# Altium schematic symbol library hallglib.SchLib: 125 symbols
Pins are listed as number, name and electrical type; pins without a type are passive.

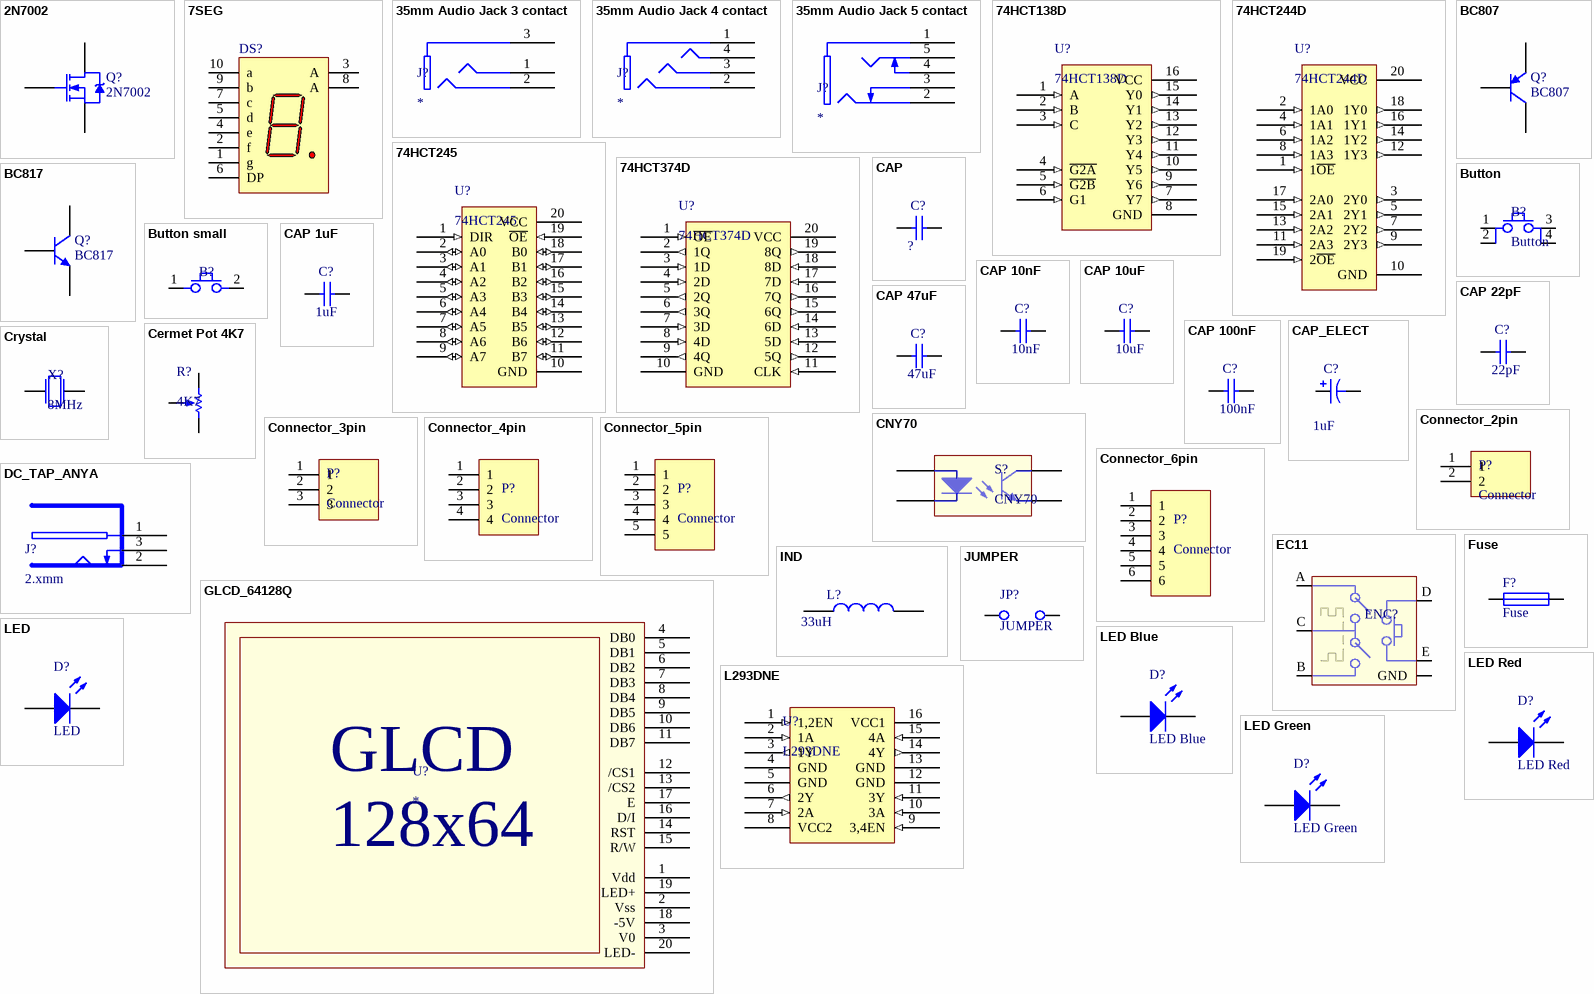
[diagram p0: symbols 2N7002 to LED Red]

## 2N7002
designator Q?
N-channel MOSFET; Name: MOSFET Transistor, N Channel, 300mA, 60V, 2.8 ohm, 10V, 2V; Voltage: 60V; Current: 300mA; Supplier: Lomex; Reference: 86-05-52
footprint FP_SOT23-3 (SOT23-3 tok); pin to pad 2>3 3>2
pins: 1 G, 2 D, 3 S

## 7SEG
designator DS?  (value not drawn)
Common Anode 7 Segment Display; Name: FYS-3911BUHR-21 (FYL) 7 SEG SRED COM.AN.; Reference: 35-03-94; Supplier: Lomex
footprint FP_7SEG
pins: 1 g "Cathode", 2 f "Cathode", 3 A "Anode", 4 e "Cathode", 5 d "Cathode", 6 DP "Cathode", 7 c "Cathode", 8 A "Anode", 9 b "Cathode", 10 a "Cathode"

## 35mm Audio Jack 3 contact
designator J?
3.5mm Audio Jack MX-387GL; Name: MX-387GL -  Phone Audio Connector, 3 Contacts, Jack, 3.5 mm, PCB Mount, Metal Body; Reference: 1267376; Supplier: Farnell
footprint FP_35MM_JACK_SMALL_3PIN (MX-387GL -  Phone Audio Connector, 3 Contacts, Jack, 3.5 mm, PCB Mount, Metal Body)
pins: 1 SLEEVE1, 2 TIP, 3 GND

## 35mm Audio Jack 4 contact
designator J?
3.5mm Audio Jack MJ-2135; Name: MJ-2135 -  Phone Audio Connector, 4 Contacts, Socket, 3.5 mm, PCB Mount; Reference: 1267377; Supplier: Farnell
footprint FP_35MM_JACK_SMALL (STX-3120-5B -  Phone Audio Connector, 3.5mm Stereo, 5 Contacts, Jack)
pins: 1 GND, 2 SLEEVE1, 3 BREAK1, 4 BREAK2

## 35mm Audio Jack 5 contact
designator J?
3.5mm Audio Jack STX-3120; Name: STX-3120-5B -  Phone Audio Connector, 3.5mm Stereo, 5 Contacts, Jack, PCB Mount, Tin Plated Contacts; Reference: 2839858; Supplier: Farnell
footprint FP_35MM_JACK (STX-3120-5B -  Phone Audio Connector, 3.5mm Stereo, 5 Contacts, Jack)
pins: 1 GND, 2 SLEEVE1, 3 BREAK1, 4 BREAK2, 5 SLEEVE2

## 74HCT138D
designator U?
3-Line to 8-Line demultiplexer; Name: 74HCT138D  Decoder / Demultiplexer, HCT Family, 1 Gate, 3 Input, 8 Output; Reference: 87-06-49; Supplier: Lomex
footprint SOP127P600X175-16M (SOP, 16-Leads, Body 9,90x3,90mm, Pitch 1,27mm, IPC Low Density)
pins: 1 A (in), 2 B (in), 3 C (in), 4 ~{G2A} (in), 5 ~{G2B} (in), 6 G1 (in), 7 Y7 (out), 8 GND (power), 9 Y6 (out), 10 Y5 (out), 11 Y4 (out), 12 Y3 (out), 13 Y2 (out), 14 Y1 (out), 15 Y0 (out), 16 VCC (power)

## 74HCT244D
designator U?
8xBuffer/Line Driver; Name: 74HCT244D-Q100,118  Buffer / Line Driver, 74HCT244; Reference: 87-05-95; Supplier: Lomex
footprint FP_SOP127P1030X265-20M (SOP, 20-Leads, Body 12.80x7.50mm, Pitch 1.27mm, IPC Low Density)
pins: 1 1~{OE} (in), 2 1A0 (in), 3 2Y0 (out), 4 1A1 (in), 5 2Y1 (out), 6 1A2 (in), 7 2Y2 (out), 8 1A3 (in), 9 2Y3 (out), 10 GND (power), 11 2A3 (in), 12 1Y3 (out), 13 2A2 (in), 14 1Y2 (out), 15 2A1 (in), 16 1Y1 (out), 17 2A0 (in), 18 1Y0 (out), 19 2~{OE} (in), 20 VCC (power)

## 74HCT245
designator U?
8x Bidirectional bus transciever; Name: 74HCT245D  Transceiver, 74HCT245; Supplier: Lomex; Reference: 87-06-35
footprint FP_SOP127P1030X265-20M (SOP, 20-Leads, Body 12.80x7.50mm, Pitch 1.27mm, IPC Low Density)
pins: 1 DIR (in), 2 A0 (io), 3 A1 (io), 4 A2 (io), 5 A3 (io), 6 A4 (io), 7 A5 (io), 8 A6 (io), 9 A7 (io), 10 GND (power), 11 B7 (io), 12 B6 (io), 13 B5 (io), 14 B4 (io), 15 B3 (io), 16 B2 (io), 17 B1 (io), 18 B0 (io), 19 ~{OE} (in), 20 VCC (power)

## 74HCT374D
designator U?
8xD-type Flip-flop; Name: 74HCT374D  Flip-Flop, Tri State Non Inverted, Positive Edge; Reference: 87-00-97; Supplier: Lomex
pins: 1 ~{OE} (in), 2 1Q (out), 3 1D (in), 4 2D (in), 5 2Q (out), 6 3Q (out), 7 3D (in), 8 4D (in), 9 4Q (out), 10 GND (power), 11 CLK (in), 12 5Q (out), 13 5D (in), 14 6D (in), 15 6Q (out), 16 7Q (out), 17 7D (in), 18 8D (in), 19 8Q (out), 20 VCC (power)

## BC807
designator Q?
PNP Transistor; Name: BC807-25  Bipolar (BJT) Single Transistor, PNP, 45 V, 100 MHz; Reference: 86-03-91; Supplier: Lomex
footprint FP_SOT23-3 (SOT23-3 tok); pin to pad 1>2 2>1
pins: 1 E, 2 B, 3 C

## BC817
designator Q?
NPN Transistor; Name: BC817-25,215  Bipolar (BJT) Single Transistor, General Purpose, NPN, 45 V, 100 MHz; Supplier: Lomex; Reference: 86-01-94
footprint FP_SOT23-3 (SOT23-3 tok); pin to pad 1>2 2>1
pins: 1 E, 2 B, 3 C

## Button
designator B?
Push button; Name: TACT 6x 6 4P SPST 1 FSM2JSMA (TYC) 50mA 12VDC SMD H=4.3mm 160g BLACK B. 2-1437565-7; Reference: 45-05-42; Supplier: Lomex
footprint FP_BTN_SMD (SMD Push Button 6x6mm)
pins: 1, 2, 3, 4

## Button small
designator B?  (value not drawn)
Push button; Name: TACT 3x 6 2P SPST 1 TS-363 (FEM) SMD 3.5x6mm H=4.3mm; Reference: 45-08-58; Supplier: Lomex
footprint FP_BTN_SMD_3x6 (TACT 3x 6 2P)
pins: 1, 2

## CAP
designator C?, comment ?
Capacitor; Value: ?
simulation model CAP (Capacitor)
signal-integrity model Cap
footprint FP_0402_CAP_050 (0.5mm magas 0402 kapacitás)
footprint FP_0603_CAP_080 (0.8mm magas 0603 kapacitás)
footprint FP_0805_CAP_085 (0805 kapacitás YAGEO 0.85mm magas)
footprint FP_1206_CAP_125 (1206 kapacitás 1.25 mm)
pins: 1, 2

## CAP 1uF
designator C?, comment 1uF
Capacitor; Tolerance: 10%; Voltage: 16V; Name: 1uF 0805 10% 16V X7R CL21B105KOFNNNG (SAM); Supplier: Lomex; Reference: 82-11-62; Value: 1uF
footprint FP_0805_CAP_085 (0805 kapacitás YAGEO 0.85mm magas)
pins: 1, 2

## CAP 10nF
designator C?, comment 10nF
Capacitor; Tolerance: 10%; Voltage: 100V; Name: 10nF 0805 10% 100V X7R 08051C103KAT2A (AVX); Supplier: Lomex; Reference: 82-11-02; Value: 10nF
footprint FP_0805_CAP_085 (0805 kapacitás YAGEO 0.85mm magas)
pins: 1, 2

## CAP 10uF
designator C?, comment 10uF
Capacitor; Tolerance: 10%; Voltage: 10V; Name: 10uF 0805 10% 10V X5R CL21A106KPFNNNG (SAM); Supplier: Lomex; Reference: 82-08-17; Value: 10uF
footprint FP_0805_CAP_085 (0805 kapacitás YAGEO 0.85mm magas)
pins: 1, 2

## CAP 22pF
designator C?, comment 22pF
Capacitor; Tolerance: 5%; Voltage: 50V; Name: 22pF 0805 5% 50V NP0 CL21C220JBANNNC (SAM); Supplier: Lomex; Reference: 82-09-18; Value: 22pF
footprint FP_0805_CAP_085 (0805 kapacitás YAGEO 0.85mm magas)
pins: 1, 2

## CAP 47uF
designator C?, comment 47uF
Capacitor; Tolerance: 20%; Voltage: 6.3V; Name: 47uF 0805 20% 6.3V X5R CL21A476MQYNNNG (SAM); Supplier: Lomex; Reference: 82-08-66; Value: 47uF
footprint FP_0805_CAP_085 (0805 kapacitás YAGEO 0.85mm magas)
pins: 1, 2

## CAP 100nF
designator C?, comment 100nF
Capacitor; Tolerance: 10%; Voltage: 50V; Name: 100nF 0805 10% 50V X7R 0805B104K500CT (WAL); Supplier: Lomex; Reference: 82-10-76; Value: 100nF
footprint FP_0805_CAP_085 (0805 kapacitás YAGEO 0.85mm magas)
pins: 1, 2

## CAP_ELECT
designator C?, comment 1uF
Polarized Capacitor; Value: 1uF
footprint FP_3528 (3528 TANTÁL SMD "B"-TOK)
footprint FP_6032
footprint FP_7343
pins: N, P
1 alternate drawing of the same symbol

## Cermet Pot 4K7
designator R?, comment 4K7
4K70 3305-472R (KIC) 3x3.8mm CERMET; Reference: 90-00-68; Supplier: Lomex; Name: 4K70 3305-472R (KIC) 3x3.8mm CERMET; Value: 4K7
footprint FP_CERMET_SMD (SMD Cermet Pot 3x3.8mm)
pins: 1 CCW, 2 WIPER, 3 CW

## CNY70
designator S?
Reflective Optical Sensor; Name: CNY70 (VIS) OPTOCOUPLER REFL. 1.5%; Supplier: Lomex; Reference: 38-00-43
footprint CNY70; pin to pad 1>A 2>K 3>C 4>E
pins: 1 A, 2 K, 3 C, 4 E

## Connector_2pin
designator P?, comment Connector
2pin connector
footprint FP_CONN2_TAP_254MM (álló két pólusú tápcsatlakozó 2.54mm)
footprint FP_CONN2_TAP_254MM_90 (fekvő két pólusú tápcsatlakozó 2.54mm)
footprint FP_CONN2_SORK_3.81MM (SORKAPOCS 2 P RM3.81)
footprint FP_CONN2_2MM_90 (fekvő 2 pólusú csatlakozó 2mm)
footprint FP_CONN2_2MM_180 (álló 2 pólusú csatlakozó 2mm)
footprint FP_CONN2_TUSKE_254MM (2×1 tüskesor)
pins: 1, 2

## Connector_3pin
designator P?, comment Connector
3pin connector
footprint FP_CONN3_TAP_254MM_90 (fekvő három pólusú tápcsatlakozó 2.54mm)
footprint FP_CONN3_TAP_254MM (álló három pólusú tápcsatlakozó 2.54mm)
footprint FP_CONN3_2MM_90 (fekvő 3 pólusú csatlakozó 2mm)
footprint FP_CONN3_TUSKE_254MM (3×1 tüskesor)
pins: 1, 2, 3

## Connector_4pin
designator P?, comment Connector
4pin Connector
footprint FP_CONN4_TAP_254MM_90 (fekvő két pólusú tápcsatlakozó 2.54mm)
footprint FP_CONN4_TAP_254MM (álló két pólusú tápcsatlakozó 2.54mm)
footprint FP_CONN4_2MM_90 (fekvő 6 pólusú csatlakozó 2mm)
footprint FP_CONN4_2MM_180 (álló 4 pólusú csatlakozó 2mm)
pins: 1, 2, 3, 4

## Connector_5pin
designator P?, comment Connector
5pin Connector
footprint FP_CONN5_TAP_254MM_90 (fekvő öt pólusú tápcsatlakozó 2.54mm)
footprint FP_CONN5_TAP_254MM (álló öt pólusú tápcsatlakozó 2.54mm)
footprint FP_CONN5_2MM_90 (fekvő 5 pólusú csatlakozó 2mm)
pins: 1, 2, 3, 4, 5

## Connector_6pin
designator P?, comment Connector
6pin connector
footprint FP_CONN6_TAP_254MM_90 (fekvő hat pólusú tápcsatlakozó 2.54mm)
footprint FP_CONN6_TAP_254MM (álló hat pólusú tápcsatlakozó 2.54mm)
footprint FP_CONN6_2MM_90 (fekvő 6 pólusú csatlakozó 2mm)
footprint FP_CONN6_2MM_180 (álló 6 pólusú csatlakozó 2mm)
pins: 1, 2, 3, 4, 5, 6

## Crystal
designator X?, comment 8MHz
Quarz Crystal; Name: 8.000000MHz QUARZ HC49/S (NSK) 30ppm 20pF LOW PROFILE; Value: 8MHz; Reference: 40-01-16; Supplier: Lomex
footprint FP_CRYSTAL_HC49_SMD (HC49/SMD)
footprint FP_CRYSTAL_HC49 (HC49)
pins: 1, 2

## DC_TAP_ANYA
designator J?, comment 2.xmm
2.xmm DC HEBA25 TÁPFESZÜLTSÉG ALJZAT ZÁRT, NYÁKBA 90°; Name: TÁP DC ANYA 5.5/2.1/9.5mm DCS-5521-5; Supplier: Lomex; Reference: 43-07-67
footprint FP_DC_TAP_ANYA (DC HEBA25 TÁPFESZÜLTSÉG ALJZAT ZÁRT, NYÁKBA 90°)
pins: 1 PIN (power), 2 SLEEVE (power), 3 BREAK (power)

## EC11
designator ENC?, comment Rotary Encoder  (value not drawn)
EC11P20 (KEN) ROTARY ENCODER + PUSH BUTTON 20-PULSE ---  VIGYÁZAT! A modellben 20mm a rúd hossza, míg a lomex termék rúd hossza mindössze 15mm!!; Name: ENCODER EC11P20 (KEN) ROTARY ENCODER + PUSH BUTTON 20-PULSE L=15mm /EC-11/; Reference: 56-04-12; Supplier: Lomex
footprint FP_EC11 (ENCODER EC11P20 (KEN) ROTARY ENCODER + PUSH BUTTON 20-PULSE L=15mm /EC-11/)
pins: A, B, C, D, E, GND

## Fuse
designator F?
footprint FP_MULTIFUSE (POLYFUSE SMD 1812)
pins: 1, 2

## GLCD_64128Q
designator U?
64128QCCBW-3LP; Name: 128x 64 DOT LIGHT:LED 64128QCCBW-3LP (DIS) 0.4/DOT 75x53mm BLUE STN LOW.POW. WIDE TEMP. (CONTROLLER/DRIVER: SBN6400G-D + SBN0064G-D); Supplier: Lomex; Reference: 37-00-71
footprint FP_GLCD_64128Q (64128Q)
pins: 1 Vdd, 2 Vss, 3 V0, 4 DB0, 5 DB1, 6 DB2, 7 DB3, 8 DB4, 9 DB5, 10 DB6, 11 DB7, 12 /CS1, 13 /CS2, 14 RST, 15 R/W, 16 D/I, 17 E, 18 -5V, 19 LED+, 20 LED-
text: GLCD; 128x64

## IND
designator L?, comment 33uH
Inductor; Value: 33uH
footprint FP_IND_MURATA3131 (Murata Chip Inductor LQH88P Series (3131 Size))
pins: 1, 2

## JUMPER
designator JP?
Jumper Wire
footprint FP_CONN2_TUSKE_2MM_1.5+3.2 (2×1-es tüskesor, 2mm-es raszter, 1.5mm műanyag + 3.2mm tüske SAMTEC-TMM-1XX-01-...)
footprint FP_CONN2_TUSKE_254MM (2×1 tüskesor)
pins: 1 C1, 2 C2

## L293DNE
designator U?
4x Half-H driver; Name: L293DNE (TI) 4xHALF-H (MOTOR) DRIVER DIP-16; Reference: 32-04-83; Supplier: Lomex
footprint DIP16
pins: 1 1,2EN (in), 2 1A (in), 3 1Y (out), 4 GND (power), 5 GND (power), 6 2Y (out), 7 2A (in), 8 VCC2 (power), 9 3,4EN (in), 10 3A (in), 11 3Y (in), 12 GND (power), 13 GND (power), 14 4Y (out), 15 4A (in), 16 VCC1 (power)

## LED
designator D?
Typical RED GaAs LED
simulation model LED1 (Diode)
footprint FP_LED_TH_GREEN (5mm átmérőjű furatszerelt zöld LED)
footprint FP_LED_TH_RED (5mm átmérőjű furatszerelt piros LED)
footprint FP_0805_LED_RED (0805 méretű piros LED)
footprint FP_0805_LED_GREEN (0805 méretű zöld LED)
pins: A, K

## LED Blue
designator D?
Blue LED; U_fw: 3.3V; I_max: 30mA; Name: 2012 BLUE 470nm 100mcd KP-2012QBC-D (KIN) W.CLEAR 2x1.2x1.1mm 0805 120°; Wavelength: 470nm; Supplier: Lomex; Reference: 95-02-48
footprint FP_0805_LED_RED (0805 méretű piros LED)
pins: A, K

## LED Green
designator D?
Green LED; U_fw: 2.2V; I_max: 25mA; Name: 2012 GREEN 568nm 15mcd KP-2012SGC (KIN) W.CLEAR 2x1.2x1.1mm 0805 120°; Wavelength: 568nm; Supplier: Lomex; Reference: 95-01-09
footprint FP_0805_LED_RED (0805 méretű piros LED)
pins: A, K

## LED Red
designator D?
Red LED; U_fw: 1.85V; I_max: 30mA; Name: 2012 RED 640nm 100mcd KP-2012SRC-PRV (KIN) W.CLEAR 2x1.2x1.1mm 0805 120°; Wavelength: 640nm; Supplier: Lomex; Reference: 95-01-68
footprint FP_0805_LED_RED (0805 méretű piros LED)
pins: A, K

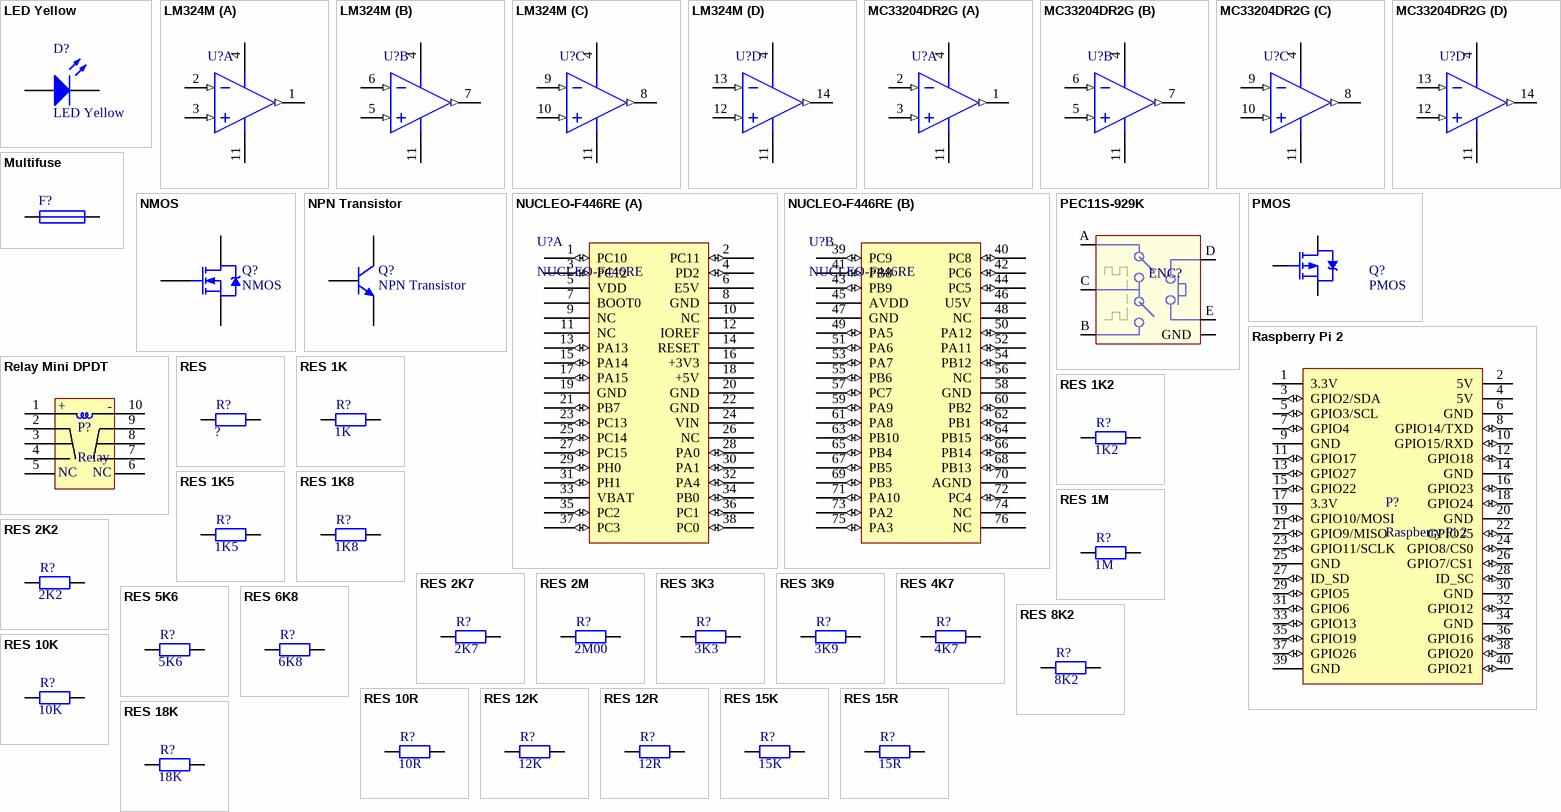
[diagram p1: symbols LED Yellow to RES 18K]

## LED Yellow
designator D?
Yellow LED; U_fw: 2.1V; I_max: 30mA; Name: 2012 YELLOW 588nm 8mcd KP-2012YC (KIN) W.CLEAR 2x1.2x1.1mm 0805 120°; Wavelength: 588nm; Supplier: Lomex; Reference: 95-01-47
footprint FP_0805_LED_RED (0805 méretű piros LED)
pins: A, K

## LM324M
designator U?
Low Power Quad Operational Amplifier, 14-pin Narrow SOIC; Code_JEDEC: MS-012AB; Code_IPC: SOIC127P600-14; ComponentLink1Description: LM324 Datasheet; ComponentLink1URL: http://www.national.com/ds/LM/LM324.pdf; ComponentLink2Description: LM324 Web Page; ComponentLink2URL: http://www.national.com/pf/LM/LM324.html; ComponentLink3Description: M14A Package Page; ComponentLink3URL: http://www.national.com/packaging/folders/m14a.html
simulation model LM324 (SUBCKT)
footprint FP_SOIC14 (SOIC-14 egyesek szerint narrow, RET szerint normál)
pins on every part: 4 V+ (power), 11 GND (power)
part A pins: 1 OUT1 (out), 2 IN1- (in), 3 IN1+ (in)
part B pins: 5 IN2+ (in), 6 IN2- (in), 7 OUT2 (out)
part C pins: 8 OUT3 (out), 9 IN3- (in), 10 IN3+ (in)
part D pins: 12 IN4+ (in), 13 IN4- (in), 14 OUT4 (out)

## MC33204DR2G
designator U?
Low Power Quad Rail-to-Rail Operational Amplifier, 14-pin Narrow SOIC; Code_JEDEC: MS-012AB; Code_IPC: SOIC127P600-14; Supplier: Lomex; Reference: 89-25-16
footprint FP_SOIC14 (SOIC-14 egyesek szerint narrow, RET szerint normál)
pins on every part: 4 V+ (power), 11 GND (power)
part A pins: 1 OUT1 (out), 2 IN1- (in), 3 IN1+ (in)
part B pins: 5 IN2+ (in), 6 IN2- (in), 7 OUT2 (out)
part C pins: 8 OUT3 (out), 9 IN3- (in), 10 IN3+ (in)
part D pins: 12 IN4+ (in), 13 IN4- (in), 14 OUT4 (out)

## Multifuse
designator F?  (value not drawn)
1812 Multifuse; Name: 1.25A 15V 1812L125/16DR POLYFUSE SMD 1812 (LFS) ˝LF125-16˝; Reference: 44-04-71; Supplier: Lomex
footprint FP_MULTIFUSE (POLYFUSE SMD 1812)
pins: 1, 2

## NMOS
designator Q?
NXP - BSP030,115 - MOSFET, N CH, 30V, 10A, SOT223
footprint FP_SOT223 (SOT223 package, 3 leads)
footprint FP_SOT23-3 (SOT23-3 tok); pin to pad 2>3 3>2
pins: 1 G, 2 D, 3 S

## NPN Transistor
designator Q?
NPN General-purpose Transistor
simulation model QBC817 (NPN)
signal-integrity model BC817
footprint FP_SOT23-3 (SOT23-3 tok)
pins: 1 B, 2 E, 3 C

## NUCLEO-F446RE
designator U?
Reference: NUCLEO; Name: Nucleo F446RE; Supplier: Tanszék
footprint FP_NUCLEO-64
part A pins: 1 PC10 (io), 2 PC11 (io), 3 PC12 (io), 4 PD2 (io), 5 VDD (power), 6 E5V (power), 7 BOOT0, 8 GND, 9 NC, 10 NC, 11 NC, 12 IOREF, 13 PA13 (io), 14 RESET, 15 PA14 (io), 16 +3V3 (power), 17 PA15 (io), 18 +5V (power), 19 GND, 20 GND, 21 PB7 (io), 22 GND, 23 PC13 (io), 24 VIN (power), 25 PC14 (io), 26 NC, 27 PC15 (io), 28 PA0 (io), 29 PH0 (io), 30 PA1 (io), 31 PH1 (io), 32 PA4 (io), 33 VBAT (power), 34 PB0 (io), 35 PC2 (io), 36 PC1 (io), 37 PC3 (io), 38 PC0 (io)
part B pins: 39 PC9 (io), 40 PC8 (io), 41 PB8 (io), 42 PC6 (io), 43 PB9 (io), 44 PC5 (io), 45 AVDD (power), 46 U5V (power), 47 GND, 48 NC, 49 PA5 (io), 50 PA12 (io), 51 PA6 (io), 52 PA11 (io), 53 PA7 (io), 54 PB12 (io), 55 PB6 (io), 56 NC, 57 PC7 (io), 58 GND, 59 PA9 (io), 60 PB2 (io), 61 PA8 (io), 62 PB1 (io), 63 PB10 (io), 64 PB15 (io), 65 PB4 (io), 66 PB14 (io), 67 PB5 (io), 68 PB13 (io), 69 PB3 (io), 70 AGND, 71 PA10 (io), 72 PC4 (io), 73 PA2 (io), 74 NC, 75 PA3 (io), 76 NC

## PEC11S-929K
designator ENC?, comment Rotary Encoder  (value not drawn)
Encoders 9.5 MM SHAFT W/SWITCH 2 DET; Name: PEC11S-929K-H0015
footprint FP_PEC11S (ENCODER EC11P20 (KEN) ROTARY ENCODER + PUSH BUTTON 20-PULSE L=15mm /EC-11/)
pins: A, B, C, D, E, GND

## PMOS
designator Q?
MOSFET, P CH
footprint FP_SOT23-3 (SOT23-3 tok); pin to pad 2>3 3>2
pins: 1 G, 2 D, 3 S

## Raspberry Pi 2
designator P?
footprint FP_RASPBERRYPI2 (Raspberry Pi 2)
pins: 1 3.3V (power), 2 5V (power), 3 GPIO2/SDA (io), 4 5V (power), 5 GPIO3/SCL (io), 6 GND (power), 7 GPIO4 (io), 8 GPIO14/TXD (io), 9 GND (power), 10 GPIO15/RXD (io), 11 GPIO17 (io), 12 GPIO18 (io), 13 GPIO27 (io), 14 GND (power), 15 GPIO22 (io), 16 GPIO23 (io), 17 3.3V (power), 18 GPIO24 (io), 19 GPIO10/MOSI (io), 20 GND (power), 21 GPIO9/MISO (io), 22 GPIO25 (io), 23 GPIO11/SCLK (io), 24 GPIO8/CS0 (io), 25 GND (power), 26 GPIO7/CS1 (io), 27 ID_SD (io), 28 ID_SC (io), 29 GPIO5 (io), 30 GND (power), 31 GPIO6 (io), 32 GPIO12 (io), 33 GPIO13 (io), 34 GND (power), 35 GPIO19 (io), 36 GPIO16 (io), 37 GPIO26 (io), 38 GPIO20 (io), 39 GND (power), 40 GPIO21 (io)

## Relay Mini DPDT
designator P?, comment Relay
Mini DPDT relay 14x9x5mm; Name: MECH 5V 2xMORSE 1A/30VDC 0.5A/12VAC A5W-K (TAK) 178R 14x9x5mm; Reference: 42-17-08; Supplier: Lomex
footprint FP_RELAY (Low Profile Mini Relay 14x9x5mm)
pins: 1 +, 2, 3, 4, 5, 6, 7, 8, 9, 10 -
text: NC

## RES
designator R?, comment ?
Resistor; Value: ?
simulation model RESISTOR (Resistor)
signal-integrity model Res
footprint FP_0603_RES (0603 ellenállás)
footprint FP_0805_RES (0805 ellenállás)
footprint FP_1206_RES (1206 ellenállás)
pins: 1, 2

## RES 1K
designator R?, comment 1K
Resistor; Tolerance: 5%; Power: 125mW; Name: 1K00 0805 5% WR08X102JTL 0.125W (WAL); Supplier: Lomex; Reference: 81-27-93; Value: 1K
footprint FP_0805_RES (0805 ellenállás)
pins: 1, 2

## RES 1K2
designator R?, comment 1K2
Resistor; Tolerance: 5%; Power: 125mW; Name: 1K20 0805 5% CR-05JL7---1K2 0.125W (VIK); Supplier: Lomex; Reference: 81-10-88; Value: 1K2
footprint FP_0805_RES (0805 ellenállás)
pins: 1, 2

## RES 1K5
designator R?, comment 1K5
Resistor; Tolerance: 5%; Power: 125mW; Name: 1K50 0805 5% CR-05JL7---1K5 0.125W (VIK); Supplier: Lomex; Reference: 81-10-89; Value: 1K5
footprint FP_0805_RES (0805 ellenállás)
pins: 1, 2

## RES 1K8
designator R?, comment 1K8
Resistor; Tolerance: 5%; Power: 125mW; Name: 1K80 0805 5% CR-05JL7---1K8 0.125W (VIK); Supplier: Lomex; Reference: 81-10-90; Value: 1K8
footprint FP_0805_RES (0805 ellenállás)
pins: 1, 2

## RES 1M
designator R?, comment 1M
Resistor; Tolerance: 5%; Power: 125mW; Name: 1M00 0805 5% CR-05JL7----1M 0.125W (VIK); Supplier: Lomex; Reference: 81-11-22; Value: 1M
footprint FP_0805_RES (0805 ellenállás)
pins: 1, 2

## RES 2K2
designator R?, comment 2K2
Resistor; Tolerance: 5%; Power: 125mW; Name: 2K20 0805 5% CR-05JL7---2K2 0.125W (VIK); Supplier: Lomex; Reference: 81-10-91; Value: 2K2
footprint FP_0805_RES (0805 ellenállás)
pins: 1, 2

## RES 2K7
designator R?, comment 2K7
Resistor; Tolerance: 5%; Power: 125mW; Name: 2K70 0805 5% CR-05JL7---2K7 0.125W (VIK); Supplier: Lomex; Reference: 81-10-92; Value: 2K7
footprint FP_0805_RES (0805 ellenállás)
pins: 1, 2

## RES 2M
designator R?, comment 2M00
Resistor; Tolerance: 1%; Power: 125mW; Name: 2M00 0805 1% CR-05FL7---2M0 0.125W (VIK); Supplier: Lomex; Reference: 80-17-98; Value: 2M00
footprint FP_0805_RES (0805 ellenállás)
pins: 1, 2

## RES 3K3
designator R?, comment 3K3
Resistor; Tolerance: 5%; Power: 125mW; Name: 3K30 0805 5% CR-05JL7---3K3 0.125W (VIK); Supplier: Lomex; Reference: 81-10-93; Value: 3K3
footprint FP_0805_RES (0805 ellenállás)
pins: 1, 2

## RES 3K9
designator R?, comment 3K9
Resistor; Tolerance: 5%; Power: 125mW; Name: 3K90 0805 5% CR-05JL7---3K9 0.125W (VIK); Supplier: Lomex; Reference: 81-10-94; Value: 3K9
footprint FP_0805_RES (0805 ellenállás)
pins: 1, 2

## RES 4K7
designator R?, comment 4K7
Resistor; Tolerance: 5%; Power: 125mW; Name: 4K70 0805 5% WR08X472JTL 0.125W (WAL); Supplier: Lomex; Reference: 81-28-05; Value: 4K7
footprint FP_0805_RES (0805 ellenállás)
pins: 1, 2

## RES 5K6
designator R?, comment 5K6
Resistor; Tolerance: 5%; Power: 125mW; Name: 5K60 0805 5% CR-05JL7---5K6 0.125W (VIK); Supplier: Lomex; Reference: 81-10-96; Value: 5K6
footprint FP_0805_RES (0805 ellenállás)
pins: 1, 2

## RES 6K8
designator R?, comment 6K8
Resistor; Tolerance: 5%; Power: 125mW; Name: 6K80 0805 5% WR08X682JTL 0.125W (WAL); Supplier: Lomex; Reference: 81-30-41; Value: 6K8
footprint FP_0805_RES (0805 ellenállás)
pins: 1, 2

## RES 8K2
designator R?, comment 8K2
Resistor; Tolerance: 5%; Power: 125mW; Name: 8K20 0805 5% CR-05JL7---8K2 0.125W (VIK); Supplier: Lomex; Reference: 81-10-98; Value: 8K2
footprint FP_0805_RES (0805 ellenállás)
pins: 1, 2

## RES 10K
designator R?, comment 10K
Resistor; Tolerance: 5%; Power: 125mW; Name: 10K0 0805 5% CR-05JL7---10K 0.125W (VIK); Supplier: Lomex; Reference: 81-30-45; Value: 10K
footprint FP_0805_RES (0805 ellenállás)
pins: 1, 2

## RES 10R
designator R?, comment 10R
Resistor; Tolerance: 5%; Power: 125mW; Name: 10R0 0805 5% CR-05JL7---10R 0.125W (VIK); Supplier: Lomex; Reference: 81-10-63; Value: 10R
footprint FP_0805_RES (0805 ellenállás)
pins: 1, 2

## RES 12K
designator R?, comment 12K
Resistor; Tolerance: 5%; Power: 125mW; Name: 12K0 0805 5% CR-05JL7---12K 0.125W (VIK); Supplier: Lomex; Reference: 81-11-00; Value: 12K
footprint FP_0805_RES (0805 ellenállás)
pins: 1, 2

## RES 12R
designator R?, comment 12R
Resistor; Tolerance: 5%; Power: 125mW; Name: 12R0 0805 5% CR-05JL7---12R 0.125W (VIK); Supplier: Lomex; Reference: 81-10-64; Value: 12R
footprint FP_0805_RES (0805 ellenállás)
pins: 1, 2

## RES 15K
designator R?, comment 15K
Resistor; Tolerance: 5%; Power: 125mW; Name: 15K0 0805 5% CR-05JL7---15K 0.125W (VIK); Supplier: Lomex; Reference: 81-11-01; Value: 15K
footprint FP_0805_RES (0805 ellenállás)
pins: 1, 2

## RES 15R
designator R?, comment 15R
Resistor; Tolerance: 5%; Power: 125mW; Name: 15R0 0805 5% CR-05JL7---15R 0.125W (VIK); Supplier: Lomex; Reference: 81-10-65; Value: 15R
footprint FP_0805_RES (0805 ellenállás)
pins: 1, 2

## RES 18K
designator R?, comment 18K
Resistor; Tolerance: 5%; Power: 125mW; Name: 18K0 0805 5% CR-05JL7---18K 0.125W (VIK); Supplier: Lomex; Reference: 81-11-02; Value: 18K
footprint FP_0805_RES (0805 ellenállás)
pins: 1, 2

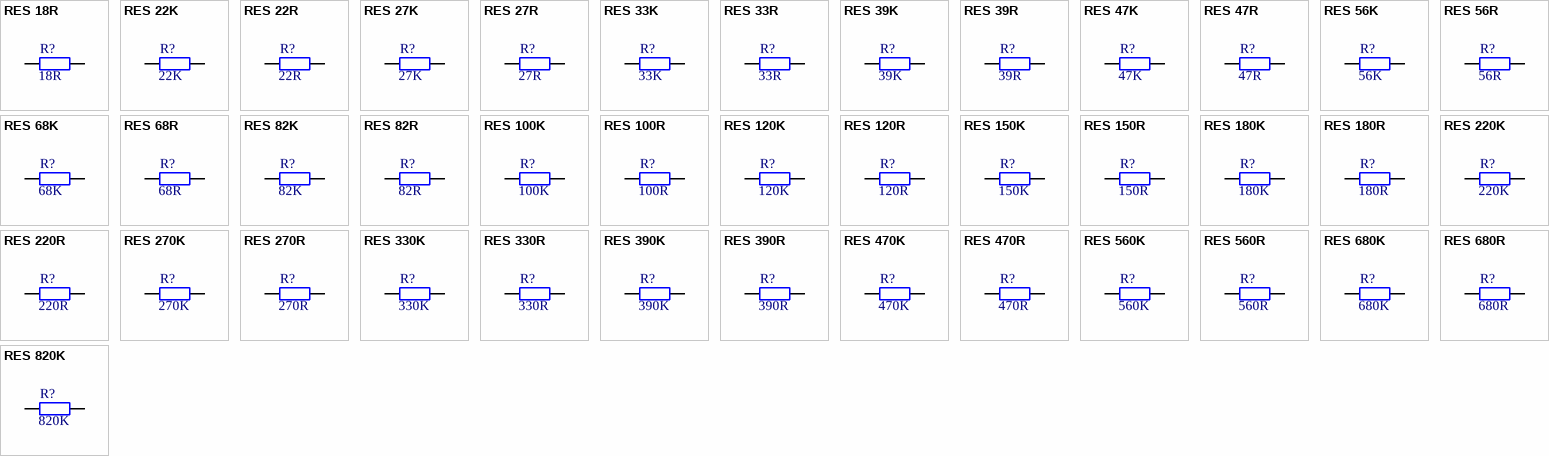
[diagram p2: symbols RES 18R to RES 820K]

## RES 18R
designator R?, comment 18R
Resistor; Tolerance: 5%; Power: 125mW; Name: 18R0 0805 5% WR08X180JTL 0.125W (WAL); Supplier: Lomex; Reference: 81-28-07; Value: 18R
footprint FP_0805_RES (0805 ellenállás)
pins: 1, 2

## RES 22K
designator R?, comment 22K
Resistor; Tolerance: 5%; Power: 125mW; Name: 22K0 0805 5% CR-05JL7---22K 0.125W (VIK); Supplier: Lomex; Reference: 81-11-03; Value: 22K
footprint FP_0805_RES (0805 ellenállás)
pins: 1, 2

## RES 22R
designator R?, comment 22R
Resistor; Tolerance: 5%; Power: 125mW; Name: 22R0 0805 5% CR-05JL7---22R 0.125W (VIK); Supplier: Lomex; Reference: 81-10-67; Value: 22R
footprint FP_0805_RES (0805 ellenállás)
pins: 1, 2

## RES 27K
designator R?, comment 27K
Resistor; Tolerance: 5%; Power: 125mW; Name: 27K0 0805 5% CR-05JL7---27K 0.125W (VIK); Supplier: Lomex; Reference: 81-11-04; Value: 27K
footprint FP_0805_RES (0805 ellenállás)
pins: 1, 2

## RES 27R
designator R?, comment 27R
Resistor; Tolerance: 5%; Power: 125mW; Name: 27R0 0805 5% CR-05JL7---27R 0.125W (VIK); Supplier: Lomex; Reference: 81-10-68; Value: 27R
footprint FP_0805_RES (0805 ellenállás)
pins: 1, 2

## RES 33K
designator R?, comment 33K
Resistor; Tolerance: 5%; Power: 125mW; Name: 33K0 0805 5% CR-05JL7---33K 0.125W (VIK); Supplier: Lomex; Reference: 81-11-05; Value: 33K
footprint FP_0805_RES (0805 ellenállás)
pins: 1, 2

## RES 33R
designator R?, comment 33R
Resistor; Tolerance: 5%; Power: 125mW; Name: 33R0 0805 5% CR-05JL7---33R 0.125W (VIK); Supplier: Lomex; Reference: 81-10-69; Value: 33R
footprint FP_0805_RES (0805 ellenállás)
pins: 1, 2

## RES 39K
designator R?, comment 39K
Resistor; Tolerance: 5%; Power: 125mW; Name: 36K0 0805 5% WR08X363JTL 0.125W (WAL); Supplier: Lomex; Reference: 81-30-58; Value: 39K
footprint FP_0805_RES (0805 ellenállás)
pins: 1, 2

## RES 39R
designator R?, comment 39R
Resistor; Tolerance: 5%; Power: 125mW; Name: 39R0 0805 5% CR-05JL7---39R 0.125W (VIK); Supplier: Lomex; Reference: 81-10-70; Value: 39R
footprint FP_0805_RES (0805 ellenállás)
pins: 1, 2

## RES 47K
designator R?, comment 47K
Resistor; Tolerance: 5%; Power: 125mW; Name: 47K0 0805 5% CR-05JL7---47K 0.125W (VIK); Supplier: Lomex; Reference: 81-11-07; Value: 47K
footprint FP_0805_RES (0805 ellenállás)
pins: 1, 2

## RES 47R
designator R?, comment 47R
Resistor; Tolerance: 5%; Power: 125mW; Name: 47R0 0805 5% WR08X470JTL 0.125W (WAL); Supplier: Lomex; Reference: 81-28-06; Value: 47R
footprint FP_0805_RES (0805 ellenállás)
pins: 1, 2

## RES 56K
designator R?, comment 56K
Resistor; Tolerance: 5%; Power: 125mW; Name: 56K0 0805 5% RC0805JR-0756KL 0.125W (YAG); Supplier: Lomex; Reference: 81-02-85; Value: 56K
footprint FP_0805_RES (0805 ellenállás)
pins: 1, 2

## RES 56R
designator R?, comment 56R
Resistor; Tolerance: 5%; Power: 125mW; Name: 56R0 0805 5% WR08X560JTL 0.125W (WAL); Supplier: Lomex; Reference: 81-17-51; Value: 56R
footprint FP_0805_RES (0805 ellenállás)
pins: 1, 2

## RES 68K
designator R?, comment 68K
Resistor; Tolerance: 5%; Power: 125mW; Name: 68K0 0805 5% CR-05JL7---68K 0.125W (VIK); Supplier: Lomex; Reference: 81-11-09; Value: 68K
footprint FP_0805_RES (0805 ellenállás)
pins: 1, 2

## RES 68R
designator R?, comment 68R
Resistor; Tolerance: 5%; Power: 125mW; Name: 68R0 0805 5% CR-05JL7---68R 0.125W (VIK); Supplier: Lomex; Reference: 81-10-73; Value: 68R
footprint FP_0805_RES (0805 ellenállás)
pins: 1, 2

## RES 82K
designator R?, comment 82K
Resistor; Tolerance: 5%; Power: 125mW; Name: 82K0 0805 5% CR-05JL7---82K 0.125W (VIK); Supplier: Lomex; Reference: 81-11-10; Value: 82K
footprint FP_0805_RES (0805 ellenállás)
pins: 1, 2

## RES 82R
designator R?, comment 82R
Resistor; Tolerance: 5%; Power: 125mW; Name: 82R0 0805 5% CR-05JL7---82R 0.125W (VIK); Supplier: Lomex; Reference: 81-10-74; Value: 82R
footprint FP_0805_RES (0805 ellenállás)
pins: 1, 2

## RES 100K
designator R?, comment 100K
Resistor; Tolerance: 5%; Power: 125mW; Name: 100K 0805 5% WR08X104JTL 0.125W (WAL); Supplier: Lomex; Reference: 81-30-68; Value: 100K
footprint FP_0805_RES (0805 ellenállás)
pins: 1, 2

## RES 100R
designator R?, comment 100R
Resistor; Tolerance: 5%; Power: 125mW; Name: 100R 0805 5% WR08X101JTL 0.125W (WAL); Supplier: Lomex; Reference: 81-30-00; Value: 100R
footprint FP_0805_RES (0805 ellenállás)
pins: 1, 2

## RES 120K
designator R?, comment 120K
Resistor; Tolerance: 5%; Power: 125mW; Name: 120K 0805 5% CR-05JL7--120K 0.125W (VIK); Supplier: Lomex; Reference: 81-11-12; Value: 120K
footprint FP_0805_RES (0805 ellenállás)
pins: 1, 2

## RES 120R
designator R?, comment 120R
Resistor; Tolerance: 5%; Power: 125mW; Name: 120R 0805 5% CR-05JL7--120R 0.125W (VIK); Supplier: Lomex; Reference: 81-10-76; Value: 120R
footprint FP_0805_RES (0805 ellenállás)
pins: 1, 2

## RES 150K
designator R?, comment 150K
Resistor; Tolerance: 5%; Power: 125mW; Name: 150K 0805 5% CR-05JL7--150K 0.125W (VIK); Supplier: Lomex; Reference: 81-11-13; Value: 150K
footprint FP_0805_RES (0805 ellenállás)
pins: 1, 2

## RES 150R
designator R?, comment 150R
Resistor; Tolerance: 5%; Power: 125mW; Name: 150R 0805 5% CR-05JL7--150R 0.125W (VIK); Supplier: Lomex; Reference: 81-10-77; Value: 150R
footprint FP_0805_RES (0805 ellenállás)
pins: 1, 2

## RES 180K
designator R?, comment 180K
Resistor; Tolerance: 5%; Power: 125mW; Name: 180K 0805 5% CR-05JL7--180K 0.125W (VIK); Supplier: Lomex; Reference: 81-11-14; Value: 180K
footprint FP_0805_RES (0805 ellenállás)
pins: 1, 2

## RES 180R
designator R?, comment 180R
Resistor; Tolerance: 5%; Power: 125mW; Name: 180R 0805 5% CR-05JL7--180R 0.125W (VIK); Supplier: Lomex; Reference: 81-10-78; Value: 180R
footprint FP_0805_RES (0805 ellenállás)
pins: 1, 2

## RES 220K
designator R?, comment 220K
Resistor; Tolerance: 5%; Power: 125mW; Name: 220K 0805 5% CR-05JL7--220K 0.125W (VIK); Supplier: Lomex; Reference: 81-11-15; Value: 220K
footprint FP_0805_RES (0805 ellenállás)
pins: 1, 2

## RES 220R
designator R?, comment 220R
Resistor; Tolerance: 5%; Power: 125mW; Name: 220R 0805 5% CR-05JL7--220R 0.125W (VIK); Supplier: Lomex; Reference: 81-10-79; Value: 220R
footprint FP_0805_RES (0805 ellenállás)
pins: 1, 2

## RES 270K
designator R?, comment 270K
Resistor; Tolerance: 5%; Power: 125mW; Name: 270K 0805 5% CR-05JL7--270K 0.125W (VIK); Supplier: Lomex; Reference: 81-11-83; Value: 270K
footprint FP_0805_RES (0805 ellenállás)
pins: 1, 2

## RES 270R
designator R?, comment 270R
Resistor; Tolerance: 5%; Power: 125mW; Name: 270R 0805 5% CR-05JL7--270R 0.125W (VIK); Supplier: Lomex; Reference: 81-10-80; Value: 270R
footprint FP_0805_RES (0805 ellenállás)
pins: 1, 2

## RES 330K
designator R?, comment 330K
Resistor; Tolerance: 5%; Power: 125mW; Name: 330K 0805 5% RC0805JR-07330KL 0.125W (YAG); Supplier: Lomex; Reference: 81-03-04; Value: 330K
footprint FP_0805_RES (0805 ellenállás)
pins: 1, 2

## RES 330R
designator R?, comment 330R
Resistor; Tolerance: 5%; Power: 125mW; Name: 330R 0805 5% WR08X331JTL 0.125W (WAL); Supplier: Lomex; Reference: 81-30-11; Value: 330R
footprint FP_0805_RES (0805 ellenállás)
pins: 1, 2

## RES 390K
designator R?, comment 390K
Resistor; Tolerance: 5%; Power: 125mW; Name: 390K 0805 5% CR-05JL7--390K 0.125W (VIK); Supplier: Lomex; Reference: 81-11-17; Value: 390K
footprint FP_0805_RES (0805 ellenállás)
pins: 1, 2

## RES 390R
designator R?, comment 390R
Resistor; Tolerance: 5%; Power: 125mW; Name: 390R 0805 5% CR-05JL7--390R 0.125W (VIK); Supplier: Lomex; Reference: 81-10-82; Value: 390R
footprint FP_0805_RES (0805 ellenállás)
pins: 1, 2

## RES 470K
designator R?, comment 470K
Resistor; Tolerance: 5%; Power: 125mW; Name: 470K 0805 5% CR-05JL7--470K 0.125W (VIK); Supplier: Lomex; Reference: 81-11-18; Value: 470K
footprint FP_0805_RES (0805 ellenállás)
pins: 1, 2

## RES 470R
designator R?, comment 470R
Resistor; Tolerance: 5%; Power: 125mW; Name: 470R 0805 5% CR-05JL7--470R 0.125W (VIK); Supplier: Lomex; Reference: 81-10-83; Value: 470R
footprint FP_0805_RES (0805 ellenállás)
pins: 1, 2

## RES 560K
designator R?, comment 560K
Resistor; Tolerance: 5%; Power: 125mW; Name: 560K 0805 5% CR-05JL7--560K 0.125W (VIK); Supplier: Lomex; Reference: 81-11-19; Value: 560K
footprint FP_0805_RES (0805 ellenállás)
pins: 1, 2

## RES 560R
designator R?, comment 560R
Resistor; Tolerance: 5%; Power: 125mW; Name: 560R 0805 5% CR-05JL7--560R 0.125W (VIK); Supplier: Lomex; Reference: 81-10-84; Value: 560R
footprint FP_0805_RES (0805 ellenállás)
pins: 1, 2

## RES 680K
designator R?, comment 680K
Resistor; Tolerance: 5%; Power: 125mW; Name: 680K 0805 5% CR-05JL7--680K 0.125W (VIK); Supplier: Lomex; Reference: 81-11-20; Value: 680K
footprint FP_0805_RES (0805 ellenállás)
pins: 1, 2

## RES 680R
designator R?, comment 680R
Resistor; Tolerance: 5%; Power: 125mW; Name: 680R 0805 5% CR-05JL7--680R 0.125W (VIK); Supplier: Lomex; Reference: 81-10-85; Value: 680R
footprint FP_0805_RES (0805 ellenállás)
pins: 1, 2

## RES 820K
designator R?, comment 820K
Resistor; Tolerance: 5%; Power: 125mW; Name: 820K 0805 5% CR-05JL7--820K 0.125W (VIK); Supplier: Lomex; Reference: 81-11-21; Value: 820K
footprint FP_0805_RES (0805 ellenállás)
pins: 1, 2

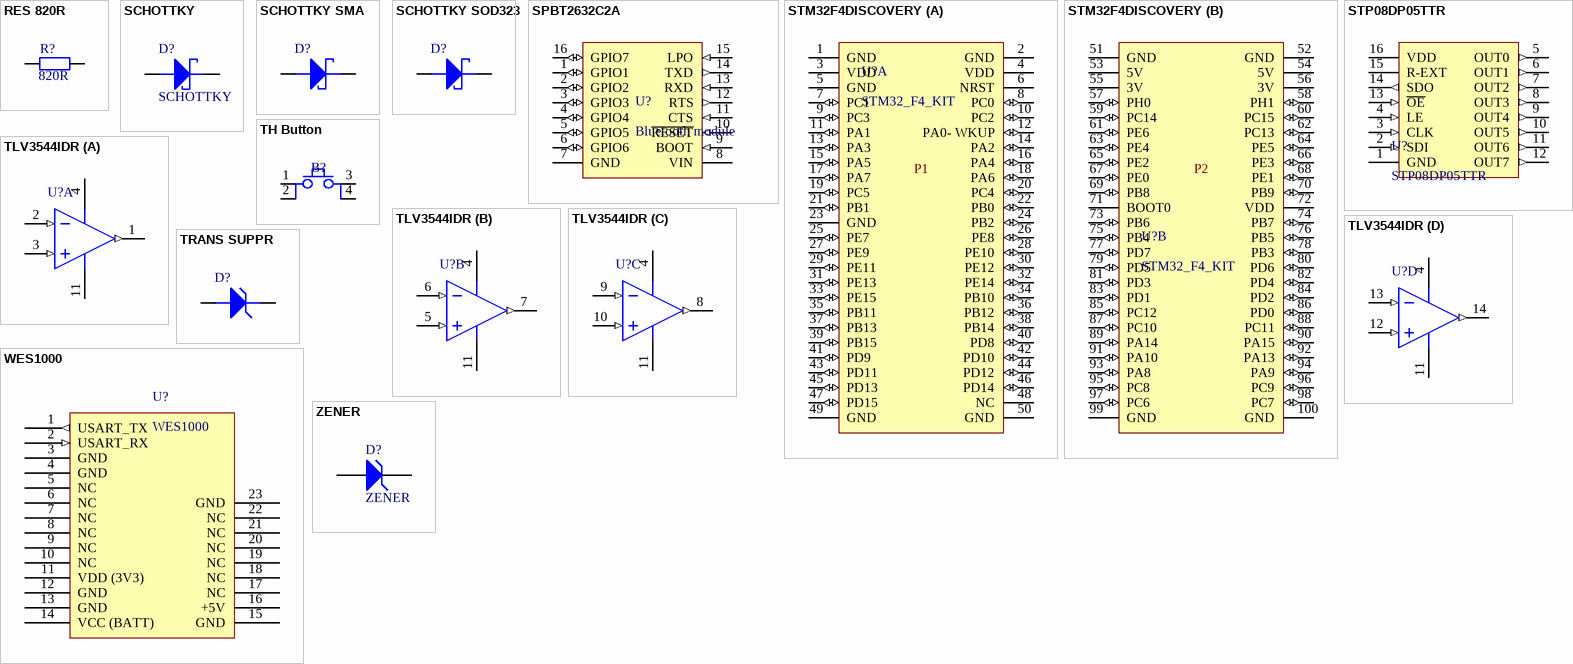
[diagram p3: symbols RES 820R to ZENER]

## RES 820R
designator R?, comment 820R
Resistor; Tolerance: 5%; Power: 125mW; Name: 820R 0805 5% WR08X821JTL 0.125W (WAL); Supplier: Lomex; Reference: 81-30-21; Value: 820R
footprint FP_0805_RES (0805 ellenállás)
pins: 1, 2

## SCHOTTKY
designator D?
Schottky diode
footprint FP_SOD323-F (SOD323-F (SC-90))
footprint FP_SOD-123
footprint FP_SMB (DO214-AA tok (SMB))
pins: 1 CATHODE, 2 ANODE

## SCHOTTKY SMA
designator D?  (value not drawn)
Schottky diode; Name: 1A 40V DO-214AC SCH.RECT.LOW Vf SSL14 (TSC) SMA; Current: 1A; Voltage: 40V; Supplier: Lomex; Reference: 83-02-20
footprint FP_SMA (SMA DO-214AC tok); pin to pad 1>2 2>1
pins: 1 CATHODE, 2 ANODE

## SCHOTTKY SOD323
designator D?  (value not drawn)
Schottky diode; Current: 1A; Voltage: 60V
footprint FP_SOD323-F (SOD323-F (SC-90))
pins: 1 CATHODE, 2 ANODE

## SPBT2632C2A
designator U?, comment Bluetooth module
Bluetooth technology class-2 module
footprint FP_SPBT2632C2A_BT_Module (Bluetooth technology class-2 module)
pins: 1 GPIO1 (io), 2 GPIO2 (io), 3 GPIO3 (io), 4 GPIO4 (io), 5 GPIO5 (io), 6 GPIO6 (io), 7 GND (power), 8 VIN (power), 9 BOOT (in), 10 ~{RESET} (in), 11 CTS (in), 12 RTS (out), 13 RXD (in), 14 TXD (out), 15 LPO (in), 16 GPIO7 (io)

## STM32F4DISCOVERY
designator U?, comment STM32_F4_KIT
STM32 F4 Discovery Evaluation Kit
footprint FP_STM32F4DISC (STM32 F4 Discovery evaluation board)
part A pins: 1 GND (power) "Ground", 2 GND (power) "Ground", 3 VDD (power) "Supply", 4 VDD (power) "Supply", 5 GND (power) "Ground", 6 NRST (hiz) "Reset signal", 7 PC1 (io) "ETH_MDC/ ADC123_IN11", 8 PC0 (io) "OTG_HS_ULPI_STP/ ADC123_IN10", 9 PC3 (io) "SPI2_MOSI/ I2S2_SD/ OTG_HS_ULPI_NXT/ ETH_MII_TX_CLK/ ADC123_IN13", 10 PC2 (io) "SPI2_MISO/ OTG_HS_ULPI_DIR/ TH_MII_TXD2/ I2S2ext_SD/ ADC123_IN12", 11 PA1 (io) "USART2_RTS/ USART4_RX/ ETH_RMII_REF_CLK/ ETH_MII_RX_CLK/ TIM5_CH2/ TIMM2_CH2/ ADC123_IN1", 12 PA0- WKUP (io) "USART2_CTS/ USART4_TX/ ETH_MII_CRS/ TIM2_CH1_ETR/ TIM5_CH1/ TIM8_ETR/ ADC123_IN0/ WKUP", 13 PA3 (io) "USART2_RX/ TIM5_CH4/ TIM9_CH2/ TIM2_CH4/ OTG_HS_ULPI_D0/ ETH_MII_COL/ ADC123_IN3", 14 PA2 (io) "USART2_TX/ TIM5_CH3/ TIM9_CH1/ TIM2_CH3/ ETH_MDIO/ ADC123_IN2", 15 PA5 (io) "SPI1_SCK/ OTG_HS_ULPI_CK/ TIM2_CH1_ETR/ TIM8_CHIN/ ADC12_IN5/ DAC2_OUT", 16 PA4 (io) "SPI1_NSS/ SPI3_NSS/ USART2_CK/ DCMI_HSYNC/ OTG_HS_SOF/ I2S3_WS/ ADC12_IN4/ DAC1_OUT", 17 PA7 (io) "SPI1_MOSI/ TIM8_CH1N/ TIM14_CH1TIM3_CH2/ ETH_MII_RX_DV/ TIM1_CH1N/ RMII_CRS_DV/ ADC12_IN7", 18 PA6 (io) "SPI1_MISO/ TIM8_BKIN/ TIM13_CH1/ DCMI_PIXCLK/ TIM3_CH1/ TIM1_BKIN/ ADC12_IN6", 19 PC5 (io) "ETH_RMII_RX_D1/ ETH_MII_RX_D1/ ADC12_IN15", 20 PC4 (io) "ETH_RMII_RX_D0/ ETH_MII_RX_D0/ ADC12_IN14", 21 PB1 (io) "TIM3_CH4/ TIM8_CH3N/ OTG_HS_ULPI_D2/ ETH_MII_RXD3/ OTG_HS_INTN/ TIM1_CH3N/ ADC12_IN9", 22 PB0 (io) "TIM3_CH3/ TIM8_CH2N/ OTG_HS_ULPI_D1/ ETH_MII_RXD2/ TIM1_CH2N/ ADC12_IN8", 23 GND (power) "Ground", 24 PB2 (io), 25 PE7 (io) "FSMC_D4/ TIM1_ETR", 26 PE8 (io) "FSMC_D5/ TIM1_CH1N", 27 PE9 (io) "FSMC_D6/ TIM1_CH1", 28 PE10 (io) "FSMC_D7/ TIM1_CH2N", 29 PE11 (io) "FSMC_D8/ TIM1_CH2", 30 PE12 (io) "FSMC_D9/ TIM1_CH3N", 31 PE13 (io) "FSMC_D10/ TIM1_CH3", 32 PE14 (io) "FSMC_D11/ TIM1_CH4", 33 PE15 (io) "FSMC_D12/ TIM1_BKIN", 34 PB10 (io) "SPI2_SCK/ I2S2_CK/ I2C2_SCL/ USART3_TX/ OTG_HS_ULPI_D3/ ETH_MII_RX_ER/ OTG_HS_SCL/ TIM2_CH3", 35 PB11 (io) "I2C2_SDA/ USART3_RX/ OTG_HS_ULPI_D4/ ETH_RMII_TX_EN/ ETH_MII_TX_EN/ OTG_HS_SDA/ TIM2_CH4", 36 PB12 (io) "SPI2_NSS/ I2S2_WS/ I2C2_SMBA/ USART3_CK/ TIM1_BKIN/ CAN2_RX/ OTG_HS_ULPI_D5/ ETH_RMII_TXD0/ ETH_MII_TXD0/ OTG_HS_ID", 37 PB13 (io) "SPI2_SCK/ I2S2_CK/ USART3_CTS/ TIM1_CH1N/ CAN2_TX/ OTG_HS_ULPI_D6/ ETH_RMII_TXD1/ ETH_MII_TXD1/ OTG_HS_VBUS", 38 PB14 (io) "SPI2_MISO/ TIM1_CH2N/ TIM12_CH1/ OTG_HS_DMUSART3_ RTS/ TIM8_CH2N/ I2S2ext_SD", 39 PB15 (io) "SPI2_MOSI/ I2S2_SD/ TIM1_CH3N/ TIM8_CH3N/ TIM12_CH2/ OTG_HS_DP", 40 PD8 (io) "FSMC_D13/ USART3_TX", 41 PD9 (io) "FSMC_D14/ USART3_RX", 42 PD10 (io) "FSMC_D15/ USART3_CK", 43 PD11 (io) "FSMC_A16/ USART3_CTS", 44 PD12 (io) "FSMC_A17/ TIM4_CH1/ USART3_RTS", 45 PD13 (io) "FSMC_A18/ TIM4_CH2", 46 PD14 (io) "FSMC_D0/ TIM4_CH3", 47 PD15 (io) "FSMC_D1/ TIM4_CH4", 48 NC "Not connected", 49 GND (power) "Ground", 50 GND (power) "Ground"
part B pins: 51 GND (power) "Ground", 52 GND (power) "Ground", 53 5V (power) "USB 5V", 54 5V (power) "USB 5V", 55 3V (power) "3V from board", 56 3V (power) "3V from board", 57 PH0 (io) "OSC_IN", 58 PH1 (io) "OSC_OUT", 59 PC14 (io) "OSC32_IN", 60 PC15 (io) "OSC32_OUT", 61 PE6 (io) "TRACED3/ FSMC_A22/ TIM9_CH2/ DCMI_D7", 62 PC13 (io) "RTC_AF1", 63 PE4 (io) "TRACED1/ FSMC_A20/ DCMI_D4", 64 PE5 (io) "TRACED2/ FSMC_A21/ TIM9_CH1/ DCMI_D6", 65 PE2 (io) "TRACECLK/ FSMC_A23/ ETH_MII_TXD3", 66 PE3 (io) "TRACED0/ FSMC_A19", 67 PE0 (io) "TIM4_ETR/ FSMC_NBL0/ DCMI_D2", 68 PE1 (io) "FSMC_NBL1/ DCMI_D3", 69 PB8 (io) "TIM4_CH3/ SDIO_D4/ TIM10_CH1/ DCMI_D6/ OTG_FS_SCL/ ETH_MII_TXD3/ I2C1_SCL/ CAN1_RX", 70 PB9 (io) "SPI2_NSS/ I2S2_WS/ TIM4_CH4/ TIM11_CH1/ OTG_FS_SDA/ SDIO_D5/ DCMI_D7/ I2C1_SDA/ CAN1_TX", 71 BOOT0 (hiz) "VPP", 72 VDD (power) "Supply", 73 PB6 (io) "I2C1_SCL/ TIM4_CH1/ CAN2_TX/ OTG_FS_INTN/ DCMI_D5/ USART1_TX", 74 PB7 (io) "I2C1_SDA/ FSMC_NL/ DCMI_VSYNC/ USART1_RX/ TIM4_CH2", 75 PB4 (io) "NJTRST/ SPI3_MISO/ TIM3_CH1/ SPI1_MISO/ I2S3ext_SD", 76 PB5 (io) "I2C1_SMBA/ CAN2_RX/ OTG_HS_ULPI_D7/ ETH_PPS_OUT/ TIM3_CH2/ SPI1_MOSI/ SPI3_MOSI/ DCMI_D10/ I2S3_SD", 77 PD7 (io) "USART2_CK/ FSMC_NE1/ FSMC_NCE2", 78 PB3 (io) "JTDO/ TRACESWO/ SPI3_SCK/ I2S3_CK/ TIM2_CH2/ SPI1_SCK", 79 PD5 (io) "FSMC_NWE/ USART2_TX", 80 PD6 (io) "FSMC_NWAIT/ USART2_RX", 81 PD3 (io) "FSMC_CLK/ USART2_CTS", 82 PD4 (io) "FSMC_NOE/ USART2_RTS", 83 PD1 (io) "FSMC_D3/ CAN1_TX", 84 PD2 (io) "TIM3_ETR/ UART5_RXSDIO_CMD/ DCMI_D11", 85 PC12 (io) "UART5_TX/ SDIO_CK/ DCMI_D9/ SPI3_MOSI/ I2S3_SD/ USART3_CK", 86 PD0 (io) "FSMC_D2/ CAN1_RX", 87 PC10 (io) "SPI3_SCK/ I2S3_CK/ UART4_TX/ SDIO_D2/ DCMI_D8/ USART3_TX", 88 PC11 (io) "UART4_RX/ SPI3_MISO/ SDIO_D3/ DCMI_D4/ USART3_RX/ I2S3ext_SD", 89 PA14 (io) "JTCK-SWCLK", 90 PA15 (io) "JTDI/ SPI3_NSS/ I2S3_WS/ TIM2_CH1_ETR/ SPI1_NSS", 91 PA10 (io) "USART1_RX/ TIM1_CH3/ OTG_FS_ID/ DCMI_D1", 92 PA13 (io) "JTMS-SWDIO", 93 PA8 (io) "MCO1/ USART1_CK/ TIM1_CH1/ I2C3_SCL/ OTG_FS_SOF", 94 PA9 (io) "USART1_TX/ TIM1_CH2/ I2C3_SMBA/ DCMI_D0/ OTG_FS_VBUS", 95 PC8 (io) "TIM8_CH3/ SDIO_D0/ TIM3_CH3/ USART6_CK/ DCMI_D2", 96 PC9 (io) "I2S_CKIN/ MCO2/ TIM8_CH4/ SDIO_D1/ I2C3_SDA/ DCMI_D3/ TIM3_CH4", 97 PC6 (io) "I2S2_MCK/ TIM8_CH1/ SDIO_D6/ USART6_TX/ DCMI_D0/ TIM3_CH1", 98 PC7 (io) "I2S3_MCK/ TIM8_CH2/ SDIO_D7/ USART6_RX/ DCMI_D1/ TIM3_CH2", 99 GND (power) "Ground", 100 GND (power) "Ground"
part A text: P1
part B text: P2

## STP08DP05TTR
designator U?
Low voltage, low current power 8-bit shift register; Reference: 2460707; Name: STMICROELECTRONICS  STP08DP05TTR  Led Driver, 8 Outputs, Constant Current, 3V-5.5V; Supplier: Farnell
footprint TSOP65P640X120-16M (TSOP, 16-Leads, Body 5,00x4,40mm, Pitch 0,65mm, IPC Low Density)
pins: 1 GND, 2 SDI (in), 3 CLK (in), 4 LE (in), 5 OUT0 (out), 6 OUT1 (out), 7 OUT2 (out), 8 OUT3 (out), 9 OUT4 (out), 10 OUT5 (out), 11 OUT6 (out), 12 OUT7 (out), 13 ~{OE} (in), 14 SDO (out), 15 R-EXT, 16 VDD (power)

## TH Button
designator B?  (value not drawn)
Trough Hole Button; Name: TACT 6x 6 4P SPST 1 TS-669 (FEM) 6x6mm H=4.3mm; Reference: 45-08-63; Supplier: Lomex
footprint FP_BTN_TH (TH Push Button 6x6mm)
pins: 1, 2, 3, 4

## TLV3544IDR
designator U?
Operational Amplifier, RRIO, 4 Amplifier, 200 MHz, 150 V/µs, 2.5V to 5.5V, ± 1.25V to ± 2.75V, SOIC; Reference: 2851094; Name: TLV3544IDR . -  Operational Amplifier; Supplier: Farnell
footprint FP_SOIC127P600X175-14M (SOIC, 14-Leads, Body 8.65x3.90mm, Pitch 1.27mm, IPC Low Density)
pins on every part: 4 V+ (power), 11 GND (power)
part A pins: 1 OUT1 (out), 2 IN1- (in), 3 IN1+ (in)
part B pins: 5 IN2+ (in), 6 IN2- (in), 7 OUT2 (out)
part C pins: 8 OUT3 (out), 9 IN3- (in), 10 IN3+ (in)
part D pins: 12 IN4+ (in), 13 IN4- (in), 14 OUT4 (out)

## TRANS SUPPR
designator D?  (value not drawn)
Transient suppressor; Name: 6.7V Ubr 600W UNIDIR. 5V Urwm SMBJ5.0A (STM) DO-214AA (SMB) ˝BUZ˝; Voltage: 6.7V; Supplier: Lomex; Reference: 96-03-67
footprint FP_SMB (DO214-AA tok (SMB))
pins: 1 CATHODE, 2 ANODE

## WES1000
designator U?
SiLabs vezeték nélküli modul
footprint FP_WES1000
pins: 1 USART_TX (out), 2 USART_RX (in), 3 GND, 4 GND, 5 NC, 6 NC, 7 NC, 8 NC, 9 NC, 10 NC, 11 VDD (3V3), 12 GND, 13 GND, 14 VCC (BATT), 15 GND, 16 +5V, 17 NC, 18 NC, 19 NC, 20 NC, 21 NC, 22 NC, 23 GND

## ZENER
designator D?
Zener Diode; U_Z: 24
signal-integrity model D Zener
footprint FP_SMA (SMA DO-214AC tok)
simulation model ZENER (Zener Diode 24V)
footprint FP_SMB (DO214-AA tok (SMB))
footprint FP_SOD-123
pins: 1 A, 2 K